# EAGLE library part 1X11 (library Jordi)
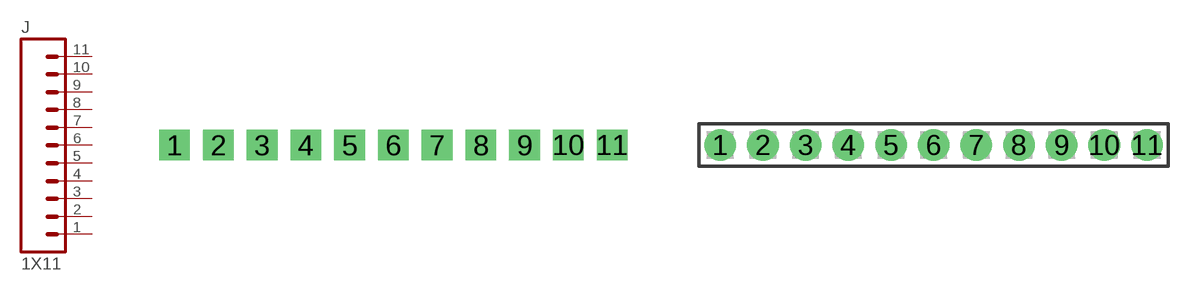
[diagram p38: symbol with the pads of CASTELLATION-11-0.1; footprints CASTELLATION-11-0.1, F-1X11-0.1-PTH]

Designator prefix J

## 1X11CAS-0.1  [CASTELLATION-11-0.1]
1  1  pas
2  2  pas
3  3  pas
4  4  pas
5  5  pas
6  6  pas
7  7  pas
8  8  pas
9  9  pas
10  10  pas
11  11  pas

## 1X11F-0.1-PTH  [F-1X11-0.1-PTH]
Pads as for CASTELLATION-11-0.1

## 1X11M-0.1-PTH  [M-1X11-0.1-PTH]
Pads as for CASTELLATION-11-0.1

## Footprint CASTELLATION-11-0.1 (pad centres in mm)
drill 1.016 pad 1.778 square: 1 -12.7,0; 2 -10.16,0; 3 -7.62,0; 4 -5.08,0; 5 -2.54,0; 6 0,0; 7 2.54,0; 8 5.08,0; 9 7.62,0; 10 10.16,0; 11 12.7,0

## Footprint F-1X11-0.1-PTH (pad centres in mm)
drill 1.016 pad 1.88: 1 -12.7,0; 2 -10.16,0; 3 -7.62,0; 4 -5.08,0; 5 -2.54,0; 6 0,0; 7 2.54,0; 8 5.08,0; 9 7.62,0; 10 10.16,0; 11 12.7,0

## Footprint M-1X11-0.1-PTH (pad centres in mm)
drill 1.016 pad 1.88: 1 -12.7,0; 2 -10.16,0; 3 -7.62,0; 4 -5.08,0; 5 -2.54,0; 6 0,0; 7 2.54,0; 8 5.08,0; 9 7.62,0; 10 10.16,0; 11 12.7,0